# Altium footprint library KEMET_CMC_SC-10-100.PcbLib: 1 footprints
Each footprint in its own frame and in the unit in brackets; x right, y up, seen from the top. Pads: shape width x height; smd on the part's side, far side on the other; paste and mask are expansions set on the pad; w line width, h text height; cw(c..) or ccw(c..) is an arc to the next point about the centre after c.
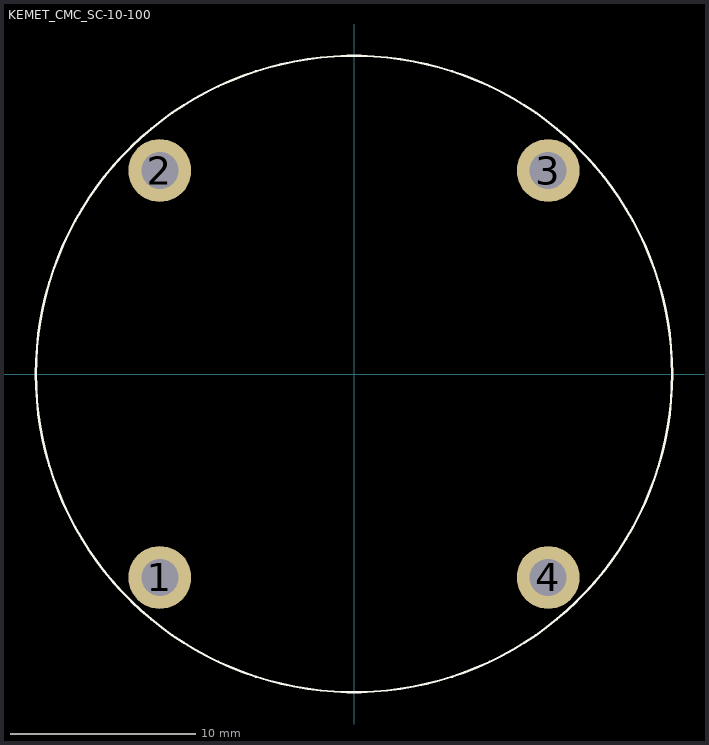
[diagram p0: the footprint, top view; thin cyan lines are the x and y axes]

## KEMET_CMC_SC-10-100 [mm] "Kemet Common Mode Choke"
pads (4):
  round 3.4 hole 2: 1(-10.5,-11) 2(-10.5,11) 3(10.5,11) 4(10.5,-11)
Top Overlay:
  circle w0.127: c0,0 r17.2